# Altium integrated library LM324NSRE4.IntLib: 1 symbol
Pins are listed as number, name and electrical type; pins without a type are passive.

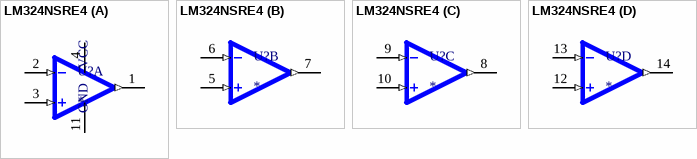
[diagram p0: symbol LM324NSRE4]

## LM324NSRE4
designator U?
4-Channel industry standard operational amplifier 14-SO 0 to 70; MF: Texas Instruments; MP: LM324NSRE4; Check_prices: https://www.snapeda.com/parts/LM324NSRE4/Texas+Instruments/view-part/?ref=eda; Package: SOP-14 Texas Instruments; Availability: In Stock; Purchase-URL: https://pricing.snapeda.com/search/part/LM324NSRE4/?ref=eda; Value: *; SnapEDA_Link: https://www.snapeda.com/parts/LM324NSRE4/Texas+Instruments/view-part/?ref=snap; Price: None
footprint SOIC127P780X200-14N
part A pins: 1 1OUT (out), 2 1IN- (in), 3 1IN+ (in), 4 VCC (power), 11 GND (power)
part B pins: 5 2IN+ (in), 6 2IN- (in), 7 2OUT (out)
part C pins: 8 3OUT (out), 9 3IN- (in), 10 3IN+ (in)
part D pins: 12 4IN+ (in), 13 4IN- (in), 14 4OUT (out)